# Altium schematic symbol library Schlib2.SchLib: 1 symbol
Pins are listed as number, name and electrical type; pins without a type are passive.

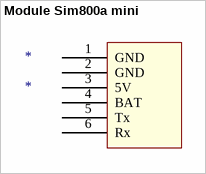
[diagram p0: symbol Module Sim800a mini]

## Module Sim800a mini
designator *
footprint CON6
pins: 1 GND, 2 GND, 3 5V, 4 BAT, 5 Tx, 6 Rx